# Altium schematic symbol library Schlib1.SchLib: 9 symbols
Pins are listed as number, name and electrical type; pins without a type are passive.

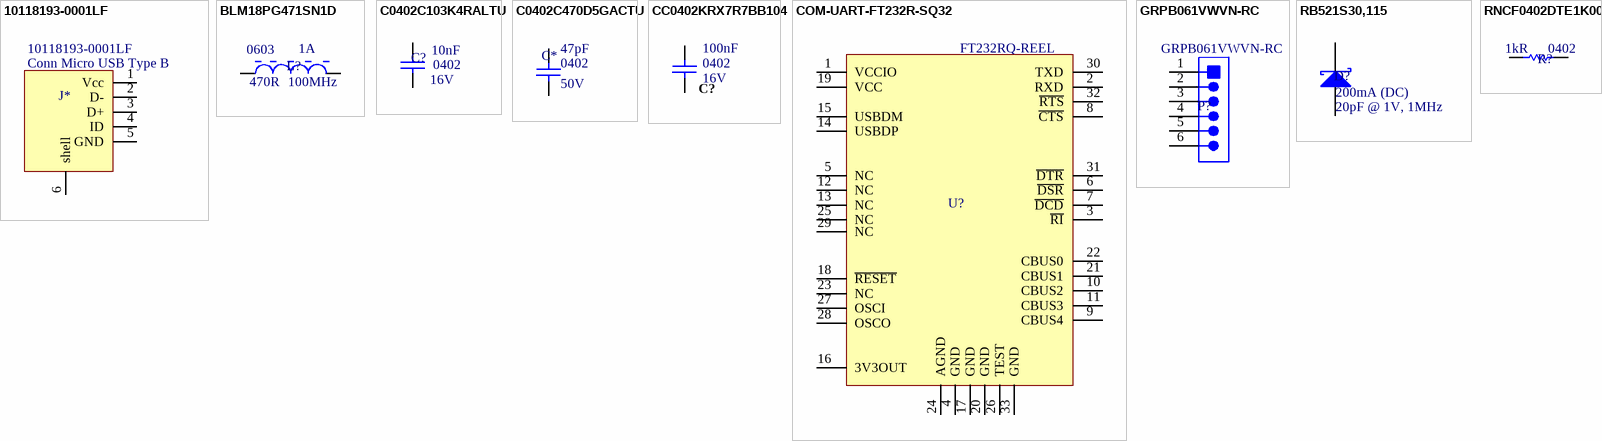
[diagram p0: symbols 10118193-0001LF to RNCF0402DTE1K00]

## 10118193-0001LF
designator J*  Description2: Conn Micro USB Type B  (hidden comment: 10118193-0001LF)
USB - micro B USB 2.0 Receptacle Connector 5 Position Surface Mount, Right Angle; Through Hole; Manufacturer: Amphenol ICC; Description: Conn Micro USB Type B RCP 5 POS 0.65mm Solder RA SMD 5 Terminal 1 Port T/R; ComponentLink1Description: 609-4616-1-ND; ComponentLink1URL: https://www.digikey.com/products/en/connectors-interconnects/usb-dvi-hdmi-connectors/312?k=10118193-0001LF&k=&pkeyword=10118193-0001LF&sv=0&pv7=2&sf=0&quantity=&ColumnSort=0&page=1&pageSize=25; ComponentLink2URL: http://datasheet.octopart.com/10118193-0001LF-FCI-datasheet-55953155.pdf?src-supplier=TME; ComponentLink2Description: http://datasheet.octopart.com/10118193-0001LF-FCI-datasheet-55953155.pdf?src-supplier=TME; ComponentLink3URL: http://datasheet.octopart.com/10118193-0001LF-FCI-datasheet-11792339.pdf?src-supplier=Arrow; ComponentLink3Description: http://datasheet.octopart.com/10118193-0001LF-FCI-datasheet-11792339.pdf?src-supplier=Arrow; ComponentLink4URL: http://datasheet.octopart.com/10118193-0001LF-FCI-datasheet-13702206.pdf?src-supplier=Allied+Electronics; ComponentLink4Description: http://datasheet.octopart.com/10118193-0001LF-FCI-datasheet-13702206.pdf?src-supplier=Allied+Electronics; ComponentLink5URL: http://datasheet.octopart.com/10118193-0001LF-Amphenol-datasheet-96019471.pdf?src-supplier=Newark; ComponentLink5Description: http://datasheet.octopart.com/10118193-0001LF-Amphenol-datasheet-96019471.pdf?src-supplier=Newark; ComponentLink6URL: http://datasheet.octopart.com/10118193-0001LF-Amphenol-ICC-datasheet-96019471.pdf?src-supplier=Element14; ComponentLink6Description: http://datasheet.octopart.com/10118193-0001LF-Amphenol-ICC-datasheet-96019471.pdf?src-supplier=Element14; ComponentLink7URL: http://datasheet.octopart.com/10118193-0001LF-Amphenol-ICC-datasheet-55953155.pdf?src-supplier=Future+Electronics; ComponentLink7Description: http://datasheet.octopart.com/10118193-0001LF-Amphenol-ICC-datasheet-55953155.pdf?src-supplier=Future+Electronics; ComponentLink8URL: http://datasheet.octopart.com/10118193-0001LF-Amphenol-ICC-datasheet-116246833.pdf?src-supplier=Future+Electronics; ComponentLink8Description: http://datasheet.octopart.com/10118193-0001LF-Amphenol-ICC-datasheet-116246833.pdf?src-supplier=Future+Electronics; ComponentLink9URL: http://datasheet.octopart.com/10118193-0001LF-ICC-datasheet-96019471.pdf?src-supplier=Farnell; ComponentLink9Description: http://datasheet.octopart.com/10118193-0001LF-ICC-datasheet-96019471.pdf?src-supplier=Farnell; ComponentLink10URL: http://datasheet.octopart.com/10118193-0001LF-ICC-datasheet-55953155.pdf?src-supplier=Farnell; ComponentLink10Description: http://datasheet.octopart.com/10118193-0001LF-ICC-datasheet-55953155.pdf?src-supplier=Farnell; Supplier 1: Arrow Electronics Inc.; Stock 1: 8400; Pricing 1: 1200 = 0.20150, 2400 = 0.18370, 4800 = 0.17130, 9600 = 0.15910, 24000 = 0.15810, 1 = 0.42060, 10 = 0.30000, 25 = 0.29990, 100 = 0.28820, 250 = 0.28160, 500 = 0.24750, 1000 = 0.24300, 3000 = 0.19000, 6000 = 0.17370 (USD); Supplier Part Number 1: 10118193-0001LF; Manufacturer Part Number: 10118193-0001LF
footprint FCI-10118193-0001LF-5_V (Micro, USB-B, 5-Leads, Body 7.86x5.05mm, Pitch 0.65 mm)
pins: 1 Vcc, 2 D-, 3 D+, 4 ID, 5 GND, 6 shell

## BLM18PG471SN1D
designator L?, comment Max Current Rating: 1A  Test Frequency: 100MHz  Impedance: 470R  Case/Package: 0603  (hidden comment: FERRITE BEAD 470 OHM 0603 1LN)
470 Ohms @ 100MHz 1 Power Line Ferrite Bead 0603 (1608 Metric) 1A 200mOhm; Manufacturer: Murata; Manufacturer Part Number: BLM18PG471SN1D; Description: Ferrite Beads Multi-Layer 470Ohm 25% 100MHz 1A 200mOhm DCR 0603 Paper T/R; Material: Steel; Tolerance: 25%; Resistance: 200mR; Number of Lines: 1; ComponentLink2Description: Datasheet; ComponentLink3URL: http://www.murata.com/products/catalog/pdf/c31e.pdf; ComponentLink1URL: http://www.murata.com/; ComponentLink3Description: Package Specification; ComponentLink2URL: http://www.murata.com/products/catalog/pdf/c31e.pdf; ComponentLink1Description: Manufacturer URL; ComponentLink4Description: BLM18PG471SN1D; ComponentLink4URL: https://www.digikey.com/products/en/filters/ferrite-beads-and-chips/841?k=BLM18PG471SN1D&k=&pkeyword=BLM18PG471SN1D&sv=0&pv7=2&sf=0&quantity=&ColumnSort=0&page=1&pageSize=25; Supplier 1: Digi-Key; Stock 1: 2280; Pricing 1: 1 = 0.10000, 10 = 0.07600, 25 = 0.06840, 50 = 0.05000, 100 = 0.04330, 250 = 0.03416, 500 = 0.02884, 1000 = 0.02429 (USD); Number of Pins: 2; Core Material: Ferrite; Case Code (Metric): 1608; Case Code (Imperial): 0603; Min Operating Temperature: -55°C; Max Operating Temperature: 125°C; Package Quantity: 1; Packaging: Tape and Reel; Current Rating: 1A; Max DC Current: 1A; DC Resistance (DCR): 200mR; Termination: SMD/SMT; DC Current: 1A; Military Standard: Not; Number of Circuits: 1; Length: 1.6mm; Height: 0.8mm; Width: 0.8mm; Depth: 0.8mm; Radiation Hardening: No; REACH SVHC: No SVHC; Lead Free: Lead Free; ComponentLink5URL: https://datasheet.ciiva.com/11800/0900766b81275ca5-11800885.pdf?src-supplier=RSComponents; ComponentLink5Description: https://datasheet.ciiva.com/11800/0900766b81275ca5-11800885.pdf?src-supplier=RSComponents; ComponentLink6URL: https://datasheet.ciiva.com/8021/1740433-8021497.pdf?src-supplier=Element14; ComponentLink6Description: https://datasheet.ciiva.com/8021/1740433-8021497.pdf?src-supplier=Element14; ComponentLink7URL: https://datasheet.ciiva.com/6212/l0110s0100blm18p-6212508.pdf?src-supplier=Digi-Key; ComponentLink7Description: https://datasheet.ciiva.com/6212/l0110s0100blm18p-6212508.pdf?src-supplier=Digi-Key; ComponentLink8URL: https://datasheet.ciiva.com/6212/l0110s0100blm18p-6212509.pdf?src-supplier=Digi-Key; ComponentLink8Description: https://datasheet.ciiva.com/6212/l0110s0100blm18p-6212509.pdf?src-supplier=Digi-Key; ComponentLink9URL: https://datasheet.ciiva.com/16331/l0110s0100blm18p-16331542.pdf?src-supplier=Future+Electronics; ComponentLink9Description: https://datasheet.ciiva.com/16331/l0110s0100blm18p-16331542.pdf?src-supplier=Future+Electronics; ComponentLink10URL: https://datasheet.ciiva.com/6212/l0110s0100blm18p-6212506.pdf?src-supplier=Digi-Key; ComponentLink10Description: https://datasheet.ciiva.com/6212/l0110s0100blm18p-6212506.pdf?src-supplier=Digi-Key; ComponentLink11URL: https://datasheet.ciiva.com/8021/1740433-8021498.pdf?src-supplier=Element14; ComponentLink11Description: https://datasheet.ciiva.com/8021/1740433-8021498.pdf?src-supplier=Element14; ComponentLink12URL: https://datasheet.ciiva.com/14122/blm-series-eng-tds-14122876.pdf?src-supplier=Distrelec; ComponentLink12Description: https://datasheet.ciiva.com/14122/blm-series-eng-tds-14122876.pdf?src-supplier=Distrelec; ComponentLink13URL: https://datasheet.ciiva.com/8508/l0110s0100blm18p-8508303.pdf?src-supplier=Avnet; ComponentLink13Description: https://datasheet.ciiva.com/8508/l0110s0100blm18p-8508303.pdf?src-supplier=Avnet; ComponentLink14URL: http://datasheet.octopart.com/BLM18PG471SN1D-Murata-datasheet-11754816.pdf?src-supplier=Element14; ComponentLink14Description: http://datasheet.octopart.com/BLM18PG471SN1D-Murata-datasheet-11754816.pdf?src-supplier=Element14; ComponentLink15URL: http://datasheet.octopart.com/BLM18PG471SN1D-Murata-datasheet-8326388.pdf?src-supplier=_legacy+Avnet; ComponentLink15Description: http://datasheet.octopart.com/BLM18PG471SN1D-Murata-datasheet-8326388.pdf?src-supplier=_legacy+Avnet; ComponentLink16URL: http://datasheet.octopart.com/BLM18PG471SN1D-Murata-datasheet-503348.pdf?src-supplier=_legacy+Avnet; ComponentLink16Description: http://datasheet.octopart.com/BLM18PG471SN1D-Murata-datasheet-503348.pdf?src-supplier=_legacy+Avnet; ComponentLink17URL: http://datasheet.octopart.com/BLM18PG471SN1D-Murata-datasheet-35449.pdf?src-supplier=Farnell; ComponentLink17Description: http://datasheet.octopart.com/BLM18PG471SN1D-Murata-datasheet-35449.pdf?src-supplier=Farnell; ComponentLink18URL: http://datasheet.octopart.com/BLM18PG471SN1D-Murata-datasheet-62086344.pdf?src-supplier=Future+Electronics; ComponentLink18Description: http://datasheet.octopart.com/BLM18PG471SN1D-Murata-datasheet-62086344.pdf?src-supplier=Future+Electronics; ComponentLink19URL: http://datasheet.octopart.com/BLM18PG471SN1D-Murata-datasheet-62117746.pdf?src-supplier=TME; ComponentLink19Description: http://datasheet.octopart.com/BLM18PG471SN1D-Murata-datasheet-62117746.pdf?src-supplier=TME; ComponentLink20URL: http://datasheet.octopart.com/BLM18PG471SN1D-Murata-datasheet-37129980.pdf; ComponentLink20Description: http://datasheet.octopart.com/BLM18PG471SN1D-Murata-datasheet-37129980.pdf; Supplier Part Number 1: 490-5223-1-ND
footprint BLM18PG471SN1D (Chip Ferrite Bead, 2-Leads, Body 1.6x0.8mm, Height 0.95mm, Flow, 0.5 to 1.5A Rated Current)
pins: 1, 2

## C0402C103K4RALTU
designator C?, comment Voltage Rating: 16V  Case/Package: 0402  Capacitance: 10nF  (hidden comment: CAP CER 10000PF 16V X7R 0402)
10000pF ±10% 16V Ceramic Capacitor X7R 0402 (1005 Metric) /; Manufacturer: KEMET; Manufacturer Part Number: C0402C103K4RALTU; Tolerance: Â±10%; Value: 10nF; Case-Metric: 1005; Description: Cap Ceramic 0.01uF 16V X7R 10% Pad SMD 0402 125C T/R; Dissipation Factor: 3.5%; Rated Voltage: 16 V; Case-EIA: 0402; Max Thickness: 0.6 mm; Technology: SMT; ComponentLink1Description: C0402C103K4RALTU; ComponentLink1URL: https://www.digikey.com/products/en/capacitors/ceramic-capacitors/60?k=C0402C103K4RALTU&k=&pkeyword=C0402C103K4RALTU&sv=0&pv7=2&sf=0&quantity=&ColumnSort=0&page=1&pageSize=25; Supplier 1: Digi-Key; Stock 1: 75494; Pricing 1: 1 = 0.76000, 10 = 0.56400, 100 = 0.38640, 500 = 0.30590, 1000 = 0.25760, 2500 = 0.24150, 5000 = 0.23345 (USD); Mount: Surface Mount; Case Code (Metric): 1005; Dielectric Material: Ceramic; Min Operating Temperature: -55°C; Max Operating Temperature: 125°C; Packaging: Tape and Reel; Package Quantity: 1; Voltage Rating (DC): 16V; Dielectric: X7R; Termination: SMD/SMT; Length: 1mm; Height: 0.5mm; Width: 0.02inch; Thickness: 0.022inch; Depth: 0.5mm; Radiation Hardening: No; ComponentLink2URL: http://components.arrow.com/part/dataview/46124281S9906155N7429?src-supplier=Arrow; ComponentLink2Description: http://components.arrow.com/part/dataview/46124281S9906155N7429?src-supplier=Arrow; ComponentLink3URL: http://www.mouser.com/ds/2/212/KEM_C1018_X7R_SnPb_SMD-1102795.pdf?src-supplier=Mouser; ComponentLink3Description: http://www.mouser.com/ds/2/212/KEM_C1018_X7R_SnPb_SMD-1102795.pdf?src-supplier=Mouser; ComponentLink4URL: https://search.kemet.com/component-edge/download/datasheet/C0402C103K4RALTU.pdf?src-supplier=Digi-Key; ComponentLink4Description: https://search.kemet.com/component-edge/download/datasheet/C0402C103K4RALTU.pdf?src-supplier=Digi-Key; ComponentLink5URL: https://api.kemet.com/component-edge/download/datasheet/C0402C103K4RALTU.pdf?src-supplier=Digi-Key; ComponentLink5Description: https://api.kemet.com/component-edge/download/datasheet/C0402C103K4RALTU.pdf?src-supplier=Digi-Key; ComponentLink6URL: http://datasheet.octopart.com/C0402C103K4RALTU-Kemet-datasheet-62307648.pdf?src-supplier=Element14; ComponentLink6Description: http://datasheet.octopart.com/C0402C103K4RALTU-Kemet-datasheet-62307648.pdf?src-supplier=Element14; ComponentLink7URL: http://datasheet.octopart.com/C0402C103K4RALTU-KEMET-datasheet-83561409.pdf?src-supplier=Newark; ComponentLink7Description: http://datasheet.octopart.com/C0402C103K4RALTU-KEMET-datasheet-83561409.pdf?src-supplier=Newark; ComponentLink8URL: http://datasheet.octopart.com/C0402C103K4RALTU-KEMET-datasheet-86448208.pdf?src-supplier=Farnell; ComponentLink8Description: http://datasheet.octopart.com/C0402C103K4RALTU-KEMET-datasheet-86448208.pdf?src-supplier=Farnell; ComponentLink9URL: http://datasheet.octopart.com/C0402C103K4RALTU-KEMET-datasheet-84169754.pdf; ComponentLink9Description: http://datasheet.octopart.com/C0402C103K4RALTU-KEMET-datasheet-84169754.pdf; Case Code (Imperial): 0402; Supplier Part Number 1: 399-6340-1-ND
footprint SM0402
pins: 1, 2
1 alternate drawing of the same symbol

## C0402C470D5GACTU
designator C*, comment Voltage Rating: 50V  Case/Package: 0402  Capacitance: 47pF  (hidden comment: CAP CER 47PF 50V NP0 0402)
47pF ±0.5pF 50V Ceramic Capacitor C0G, NP0 0402 (1005 Metric); Manufacturer: KEMET; Manufacturer Part Number: C0402C470D5GACTU; Description: Capacitor, Ceramic, 47Pf, 50Vdc, .5-Pf Tol, .5+Pf Tol, C0g-Tc Code, -30, 30Ppm-Tc; ComponentLink1Description: C0402C470D5GACTU; ComponentLink1URL: https://www.digikey.com/product-detail/en/C0402C470D5GACTU/C0402C470D5GACTU-ND/2196707?utm_campaign=buynow&WT.z_cid=ref_octopart_dkc_buynow&utm_medium=aggregator&curr=usd&site=us&utm_source=octopart; Supplier 1: Digi-Key; Stock 1: 0; Pricing 1: 10000 = 0.39203 (USD); Mount: Surface Mount; Case Code (Metric): 1005; Dielectric Material: Ceramic; Min Operating Temperature: -55°C; Max Operating Temperature: 125°C; Package Quantity: 10000; Packaging: Tape and Reel; Voltage Rating (DC): 50V; Dielectric: C0G; Termination: SMD/SMT; Length: 0.039inch; Height: 0.5mm; Width: 0.02inch; Thickness: 0.022inch; Lead Pitch: 0.3mm; Lead Free: Lead Free; ComponentLink2URL: https://datasheet.ciiva.com/5421/kem-c1003-c0g-smd-5421883.pdf?src-supplier=Mouser; ComponentLink2Description: https://datasheet.ciiva.com/5421/kem-c1003-c0g-smd-5421883.pdf?src-supplier=Mouser; ComponentLink3URL: http://datasheet.octopart.com/C0402C470D5GACTU-KEMET-datasheet-84169754.pdf; ComponentLink3Description: http://datasheet.octopart.com/C0402C470D5GACTU-KEMET-datasheet-84169754.pdf; Supplier Part Number 1: C0402C470D5GACTU-ND; Case Code (Imperial): 0402
footprint SM0402
pins: 1, 2

## CC0402KRX7R7BB104
designator C?, comment Voltage Rating: 16V  Case/Package: 0402  Capacitance: 100nF  (hidden comment: CAP CER 0.1UF 16V X7R 0402)
0.1µF ±10% 16V Ceramic Capacitor X7R 0402 (1005 Metric); Manufacturer: Yageo; Manufacturer Part Number: CC0402KRX7R7BB104; ComponentLink1Description: CC0402KRX7R7BB104; ComponentLink1URL: https://www.digikey.com/products/en/capacitors/ceramic-capacitors/60?k=CC0402KRX7R7BB104&k=&pkeyword=CC0402KRX7R7BB104&sv=0&pv7=2&sf=0&quantity=&ColumnSort=0&page=1&pageSize=25; ComponentLink2URL: https://datasheet.ciiva.com/11788/0900766b80ce67ed-11788364.pdf?src-supplier=RSComponents; ComponentLink2Description: https://datasheet.ciiva.com/11788/0900766b80ce67ed-11788364.pdf?src-supplier=RSComponents; ComponentLink3URL: https://datasheet.ciiva.com/16625/upy-gphc-x7r-6-3v-to-50v-8-16625511.pdf?src-supplier=Avnet+Europe; ComponentLink3Description: https://datasheet.ciiva.com/16625/upy-gphc-x7r-6-3v-to-50v-8-16625511.pdf?src-supplier=Avnet+Europe; ComponentLink4URL: https://datasheet.ciiva.com/161/mlccorderingcode-161544.pdf?src-supplier=Digi-Key; ComponentLink4Description: https://datasheet.ciiva.com/161/mlccorderingcode-161544.pdf?src-supplier=Digi-Key; ComponentLink5URL: https://datasheet.ciiva.com/161/mlccorderingcode-161545.pdf?src-supplier=Digi-Key; ComponentLink5Description: https://datasheet.ciiva.com/161/mlccorderingcode-161545.pdf?src-supplier=Digi-Key; ComponentLink6URL: https://datasheet.ciiva.com/11587/upy-gphc-x7r-6-3v-to-50v-8-11587305.pdf?src-supplier=Avnet; ComponentLink6Description: https://datasheet.ciiva.com/11587/upy-gphc-x7r-6-3v-to-50v-8-11587305.pdf?src-supplier=Avnet; ComponentLink7URL: https://datasheet.ciiva.com/161/mlccorderingcode-161546.pdf?src-supplier=Digi-Key; ComponentLink7Description: https://datasheet.ciiva.com/161/mlccorderingcode-161546.pdf?src-supplier=Digi-Key; ComponentLink8URL: https://datasheet.ciiva.com/13395/upy-gphc-x7r-6-3v-to-50v-8-13395676.pdf?src-supplier=Mouser; ComponentLink8Description: https://datasheet.ciiva.com/13395/upy-gphc-x7r-6-3v-to-50v-8-13395676.pdf?src-supplier=Mouser; ComponentLink9URL: https://datasheet.ciiva.com/8033/1734573-8033661.pdf?src-supplier=Element14; ComponentLink9Description: https://datasheet.ciiva.com/8033/1734573-8033661.pdf?src-supplier=Element14; ComponentLink10URL: https://datasheet.ciiva.com/7978/1489800-7978111.pdf?src-supplier=Element14; ComponentLink10Description: https://datasheet.ciiva.com/7978/1489800-7978111.pdf?src-supplier=Element14; ComponentLink11URL: https://datasheet.ciiva.com/8033/1734573-8033663.pdf?src-supplier=Element14; ComponentLink11Description: https://datasheet.ciiva.com/8033/1734573-8033663.pdf?src-supplier=Element14; ComponentLink12URL: https://datasheet.ciiva.com/28450/1489800-28450335.pdf?src-supplier=Element14; ComponentLink12Description: https://datasheet.ciiva.com/28450/1489800-28450335.pdf?src-supplier=Element14; Supplier 1: Digi-Key; Stock 1: 38597495; Pricing 1: 1 = 0.10000, 10 = 0.03800, 100 = 0.01700, 500 = 0.01216, 1000 = 0.00956, 2500 = 0.00869, 5000 = 0.00799 (USD); Mount: Surface Mount; Number of Pins: 2; Case Code (Metric): 1005; Min Operating Temperature: -55°C; Max Operating Temperature: 125°C; Tolerance: 10%; Voltage Rating (DC): 16V; Packaging: Tape and Reel; Package Quantity: 1; Dielectric: X7R; Termination: SMD/SMT; Composition: Ceramic; Voltage: 16V; Length: 1mm; Height: 0.5mm; Width: 0.02inch; Thickness: 0.022inch; Depth: 0.5mm; Radiation Hardening: No; REACH SVHC: No SVHC; Lead Free: Lead Free; Halogen Free: Halogen Free; Case Code (Imperial): 0402; Supplier Part Number 1: 311-1338-1-ND
footprint SM0402
pins: 1, 2

## COM-UART-FT232R-SQ32
designator U?, comment FT232RQ-REEL
USB Bridge, USB to UART USB 2.0 UART Interface 32-QFN (5x5); Manufacturer: FTDI; Description: USB Full Speed to Serial UART IC, Includes Oscillator and EEPROM - QFN-32; Operating Supply Voltage: 5V; Number of Channels: 1; Max Supply Voltage: 5.25V; Min Supply Voltage: 3.3V; Data Rate: 12Mbps; Operating Supply Current: 15mA; ComponentLink1Description: FT232RQ-REEL; ComponentLink1URL: https://www.digikey.com/products/en/integrated-circuits-ics/interface-controllers/753?k=FT232R&k=&pkeyword=FT232R&sv=0&pv16=4404&sf=0&FV=ffe002f1%2C1c0002%2C1c0006&quantity=&ColumnSort=0&page=1&pageSize=25; Supplier 1: Digi-Key; Stock 1: 57058; Pricing 1: 1 = 4.50000, 10 = 4.05000, 50 = 3.85000, 100 = 3.65000, 250 = 3.25000, 500 = 2.85002, 1000 = 2.65000, 2500 = 2.35000 (USD); Mount: Surface Mount; Case/Package: QFN EP; Number of Pins: 32; Weight: 0.006653oz; Min Operating Temperature: -40°C; Max Operating Temperature: 85°C; Packaging: Tape and Reel; Package Quantity: 6000; Interface: UART; Length: 5mm; Width: 5mm; Radiation Hardening: No; Lead Free: Lead Free; ComponentLink2URL: https://datasheet.ciiva.com/1505/1647396-1505445.pdf?src-supplier=Digi-Key; ComponentLink2Description: https://datasheet.ciiva.com/1505/1647396-1505445.pdf?src-supplier=Digi-Key; ComponentLink3URL: https://datasheet.ciiva.com/26841/ft232rq-reel-26841082.pdf?src-supplier=IIIC; ComponentLink3Description: https://datasheet.ciiva.com/26841/ft232rq-reel-26841082.pdf?src-supplier=IIIC; ComponentLink4URL: https://datasheet.ciiva.com/1787/ds-ft232r-1787041.pdf?src-supplier=Digi-Key; ComponentLink4Description: https://datasheet.ciiva.com/1787/ds-ft232r-1787041.pdf?src-supplier=Digi-Key; ComponentLink5URL: https://datasheet.ciiva.com/1787/ds-ft232r-1787042.pdf?src-supplier=Digi-Key; ComponentLink5Description: https://datasheet.ciiva.com/1787/ds-ft232r-1787042.pdf?src-supplier=Digi-Key; ComponentLink6URL: https://datasheet.ciiva.com/16438/ds-ft232r-16438555.pdf?src-supplier=Future+Electronics; ComponentLink6Description: https://datasheet.ciiva.com/16438/ds-ft232r-16438555.pdf?src-supplier=Future+Electronics; ComponentLink7URL: https://datasheet.ciiva.com/15150/getdatasheetpartid-644721-15150509.pdf?src-supplier=Verical; ComponentLink7Description: https://datasheet.ciiva.com/15150/getdatasheetpartid-644721-15150509.pdf?src-supplier=Verical; ComponentLink8URL: https://datasheet.ciiva.com/4787/ds-ft232r-4787663.pdf?src-supplier=Mouser; ComponentLink8Description: https://datasheet.ciiva.com/4787/ds-ft232r-4787663.pdf?src-supplier=Mouser; ComponentLink9URL: http://datasheet.octopart.com/FT232RQ-REEL-FTDI-datasheet-11992319.pdf?src-supplier=Allied+Electronics; ComponentLink9Description: http://datasheet.octopart.com/FT232RQ-REEL-FTDI-datasheet-11992319.pdf?src-supplier=Allied+Electronics; ComponentLink10URL: http://datasheet.octopart.com/FT232RQ-REEL-FTDI-datasheet-44209889.pdf?src-supplier=Newark; ComponentLink10Description: http://datasheet.octopart.com/FT232RQ-REEL-FTDI-datasheet-44209889.pdf?src-supplier=Newark; ComponentLink11URL: http://datasheet.octopart.com/FT232RQ-REEL-FTDI-datasheet-10427816.pdf?src-supplier=Arrow; ComponentLink11Description: http://datasheet.octopart.com/FT232RQ-REEL-FTDI-datasheet-10427816.pdf?src-supplier=Arrow; ComponentLink12URL: http://datasheet.octopart.com/FT232RQ-REEL-FTDI-datasheet-15949903.pdf?src-supplier=IIIC; ComponentLink12Description: http://datasheet.octopart.com/FT232RQ-REEL-FTDI-datasheet-15949903.pdf?src-supplier=IIIC; ComponentLink13URL: http://datasheet.octopart.com/FT232RQ-REEL-FTDI-datasheet-68321328.pdf?src-supplier=TME; ComponentLink13Description: http://datasheet.octopart.com/FT232RQ-REEL-FTDI-datasheet-68321328.pdf?src-supplier=TME; Supplier Part Number 1: 768-1008-1-ND; Manufacturer Part Number: FT232RQ-REEL
footprint COM-UART-FT232R-SQ32 (QFN, 32-Leads, Body 5x5mm, Pitch 0.5mm, Thermal Pad 3.3x3.3mm, FTDI Recommended)
pins: 1 VCCIO, 2 RXD, 3 ~{RI}, 4 GND, 5 NC, 6 ~{DSR}, 7 ~{DCD}, 8 ~{CTS}, 9 CBUS4, 10 CBUS2, 11 CBUS3, 12 NC, 13 NC, 14 USBDP, 15 USBDM, 16 3V3OUT, 17 GND, 18 ~{RESET}, 19 VCC, 20 GND, 21 CBUS1, 22 CBUS0, 23 NC, 24 AGND, 25 NC, 26 TEST, 27 OSCI, 28 OSCO, 29 NC, 30 TXD, 31 ~{DTR}, 32 ~{RTS}, 33 GND

## GRPB061VWVN-RC
designator P?, comment Manufacturer Part Number: GRPB061VWVN-RC  (hidden comment: CONN HEADER VERT 6POS 1.27MM)
Connector Header Through Hole 6 position 0.050" (1.27mm); Manufacturer: Sullins; Description: Male, 6 C, Straight, .050" CC; 3.00mm Head/2.30mm Tail, No Mt; Nylon 9T, Brass, 105 C; Number of Positions: 6; Connector Type: Male Pin; Pitch: 0.05inch; ComponentLink1Description: GRPB061VWVN-RC; ComponentLink1URL: https://www.digikey.com/products/en?keywords=GRPB061VWVN-RC; Supplier 1: Digi-Key; Stock 1: 23780; Pricing 1: 1 = 0.48000, 10 = 0.44800, 100 = 0.34360, 500 = 0.29880, 1000 = 0.24651, 5000 = 0.21663, 10000 = 0.21580 (USD); Mount: Through Hole; Contact Plating: Gold; Package Quantity: 1; Number of Rows: 1; Packaging: Bulk; Termination: Solder; Contact Mating Length: 0.118inch; Lead Free: Lead Free; ComponentLink2URL: https://datasheet.ciiva.com/726/71-grpb-1vwvn-rc-10957-c-726652.pdf?src-supplier=Digi-Key; ComponentLink2Description: https://datasheet.ciiva.com/726/71-grpb-1vwvn-rc-10957-c-726652.pdf?src-supplier=Digi-Key; ComponentLink3URL: http://datasheet.octopart.com/GRPB061VWVN-RC-Sullins-datasheet-12514290.pdf?src-supplier=Future+Electronics; ComponentLink3Description: http://datasheet.octopart.com/GRPB061VWVN-RC-Sullins-datasheet-12514290.pdf?src-supplier=Future+Electronics; ComponentLink4URL: http://datasheet.octopart.com/GRPB061VWVN-RC-Sullins-datasheet-34148777.pdf?src-supplier=Future+Electronics; ComponentLink4Description: http://datasheet.octopart.com/GRPB061VWVN-RC-Sullins-datasheet-34148777.pdf?src-supplier=Future+Electronics; Supplier Part Number 1: S9014E-06-ND
footprint SLIN-GRPB061VWVN-RC_V (Header, 6-Leads, Body 7.62x2.14mm, Pitch 1.27mm)
pins: 1, 2, 3, 4, 5, 6

## RB521S30,115
designator D?, comment Capacitance @ Vr, F: 20pF @ 1V, 1MHz  Current - Average Rectified (Io): 200mA (DC)  (hidden comment: DIODE SCHOTTKY 30V 200MA SOD523)
Schottky Barrier Diode, 30 V, 0.2 A, -55 to 125 degC, 2-Pin SOD523F, RoHS, Tape and Reel; Manufacturer Part Number: RB521S30,115; Manufacturer: Nexperia; Description: RB521S30 - 200 mA low Vf MEGA Schottky barrier rectifier; ComponentLink1Description: RB521S30,115; ComponentLink1URL: https://www.digikey.com/product-detail/en/nexperia-usa-inc/RB521S30115/1727-6493-1-ND/2773925; ComponentLink2URL: http://datasheet.octopart.com/RB521S30%2C115-Nexperia-datasheet-87582339.pdf?src-supplier=Nexperia; ComponentLink2Description: http://datasheet.octopart.com/RB521S30%2C115-Nexperia-datasheet-87582339.pdf?src-supplier=Nexperia; ComponentLink3URL: http://datasheet.octopart.com/RB521S30%2C115-Nexperia-datasheet-10674343.pdf?src-supplier=NXP+Semiconductors; ComponentLink3Description: http://datasheet.octopart.com/RB521S30%2C115-Nexperia-datasheet-10674343.pdf?src-supplier=NXP+Semiconductors; ComponentLink4URL: http://datasheet.octopart.com/RB521S30%2C115-Philips-datasheet-14055121.pdf?src-supplier=IIIC; ComponentLink4Description: http://datasheet.octopart.com/RB521S30%2C115-Philips-datasheet-14055121.pdf?src-supplier=IIIC; Supplier 1: Digi-Key; Stock 1: 15636; Pricing 1: 1 = 0.27000, 10 = 0.22100, 100 = 0.11740, 500 = 0.07726, 1000 = 0.05253 (USD); Supplier Part Number 1: 1727-6493-1-ND
footprint DIODE SOD523 (SMD, 2-Leads, Body 1.2x0.8mm, Height 0.7mm)
pins: 1 A, 2 K

## RNCF0402DTE1K00
designator R?, comment Resistance: 1kR  Case/Package: 0402  (hidden comment: RES 1K OHM 0.5% 1/16W 0402)
1 kOhms ±0.5% 0.063W, 1/16W Chip Resistor 0402 (1005 Metric) Automotive AEC-Q200 Thin Film; Manufacturer: Stackpole Electronics; Manufacturer Part Number: RNCF0402DTE1K00; Tolerance: 1 %; Value: 1000.00 Ohm; Case-Metric: 1005; Power Rating: 63mW; Case-EIA: 0402; Technology: SMT; Power: 0.063 W; ComponentLink1Description: RNCF0402DTE1K00; ComponentLink1URL: https://www.digikey.com/products/en/resistors/chip-resistor-surface-mount/52?k=RNCF0402DTE1K00&k=&pkeyword=RNCF0402DTE1K00&sv=0&pv7=2&sf=0&quantity=&ColumnSort=0&page=1&pageSize=25; Supplier 1: Digi-Key; Stock 1: 17585; Pricing 1: 1 = 0.13000, 10 = 0.12000, 100 = 0.04620, 1000 = 0.02033, 2500 = 0.01756, 5000 = 0.01571 (USD); RoHS: No; Mount: Surface Mount; Min Operating Temperature: -55°C; Max Operating Temperature: 155°C; Packaging: Tape and Reel; Supplier Part Number 1: RNCF0402DTE1K00CT-ND
footprint SM0402
pins: 1, 2
1 alternate drawing of the same symbol